# Altium footprint library RoketAnaSistemPCBKütüphane.PcbLib: 41 footprints (part 3 of 3)
Each footprint in its own frame and in the unit in brackets; x right, y up, seen from the top. Pads: shape width x height; smd on the part's side, far side on the other; paste and mask are expansions set on the pad; w line width, h text height; cw(c..) or ccw(c..) is an arc to the next point about the centre after c.
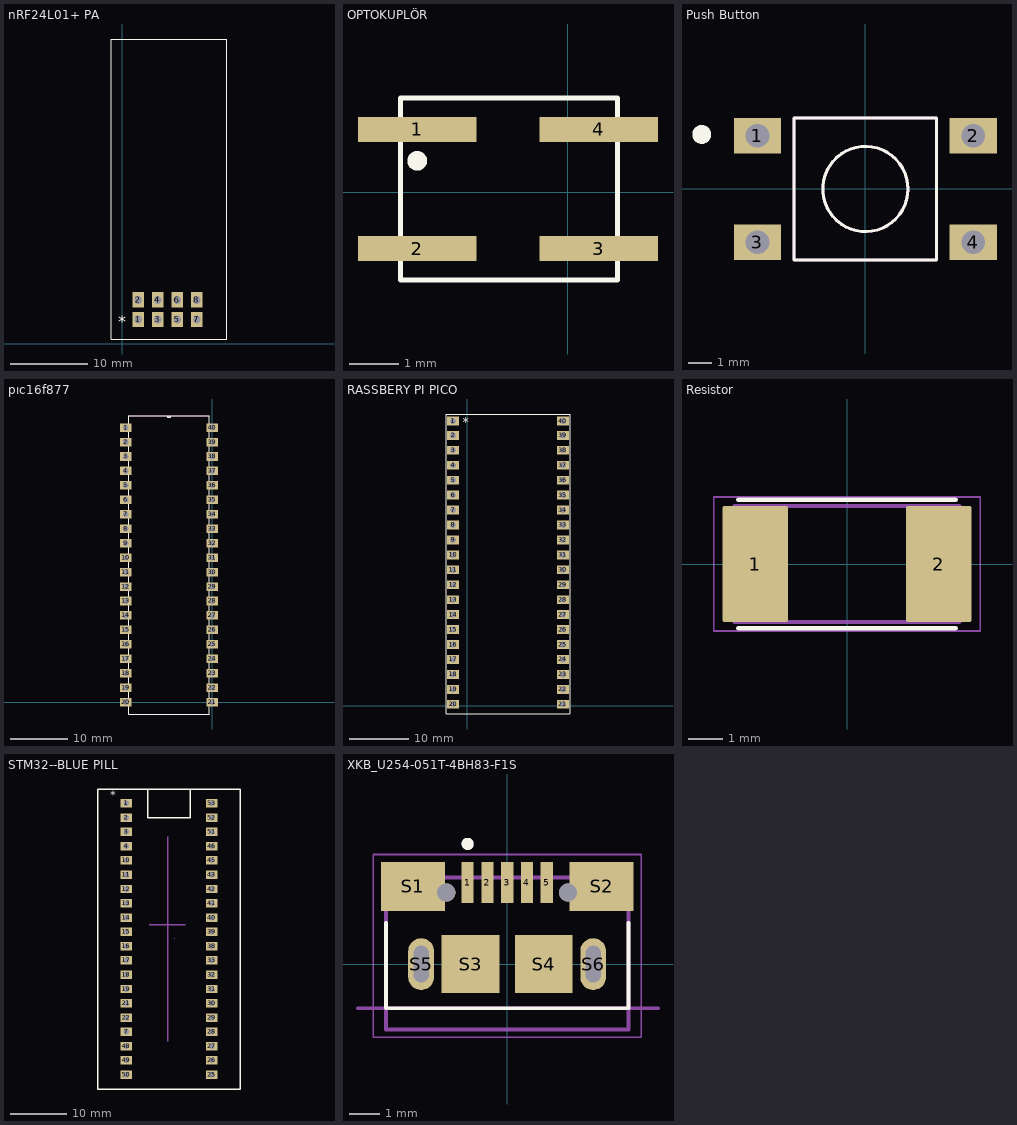
[diagram p2: the footprints below, top view; thin cyan lines are the x and y axes]

## nRF24L01+ PA [mm] "Wireless Module"
pads (8):
  rect 1.5x2 hole 1: 1(2.103,3.175) 2(2.103,5.715) 3(4.643,3.175) 4(4.643,5.715) 5(7.183,3.175) 6(7.183,5.715) 7(9.723,3.175) 8(9.723,5.715)
Top Overlay:
  lines w0.1: -1.397,0.635 13.603,0.635 13.603,39.635 -1.397,39.635 -1.397,0.635
  text "*" at -0.508,2.159 h1.52

## OPTOKUPLÖR [mm]
pads (4):
  rect 2.4x0.5 smd: 1(-3.048,1.27) 2(-3.048,-1.143) 3(0.635,-1.143) 4(0.635,1.27)
Top Overlay:
  circle w0.2: c-3.048,0.635 r0.1
  lines w0.1: -3.384,-1.778 1.016,-1.778 1.016,1.905 -3.384,1.905 -3.384,-1.778

## PCBComponent_1 [mm]

## Push Button [mm]
pads (4):
  rect 2x1.5 hole 1: 1(-4.55,2.25) 2(4.55,2.25) 3(-4.55,-2.25) 4(4.55,-2.25)
Top Overlay:
  circle w0.4: c-6.9,2.3 r0.2
  circle w0.127: c0,0 r1.796
  lines w0.127: -3,-3 3,-3 3,3 -3,3 -3,-3
Mechanical 13:
  circle w0.127: c0,0 r1.796
  lines w0.127: -3,-3 3,-3 3,3 -3,3 -3,-3

## pıc16f877 [mm] "pıc16f877"
pads (40):
  rect 2x1.5 hole 1: 1(-15.24,48.26) 2(-15.24,45.72) 3(-15.24,43.18) 4(-15.24,40.64) 5(-15.24,38.1) 6(-15.24,35.56) 7(-15.24,33.02) 8(-15.24,30.48) 9(-15.24,27.94) 10(-15.24,25.4) 11(-15.24,22.86) 12(-15.24,20.32) 13(-15.24,17.78) 14(-15.24,15.24) 15(-15.24,12.7) 16(-15.24,10.16) 17(-15.24,7.62) 18(-15.24,5.08) 19(-15.24,2.54) 20(-15.24,0) 21(0,0) 22(0,2.54) 23(0,5.08) 24(0,7.62) 25(0,10.16) 26(0,12.7) 27(0,15.24) 28(0,17.78) 29(0,20.32) 30(0,22.86) 31(0,25.4) 32(0,27.94) 33(0,30.48) 34(0,33.02) 35(0,35.56) 36(0,38.1) 37(0,40.64) 38(0,43.18) 39(0,45.72) 40(0,48.26)
Top Overlay:
  lines w0: -7.925,50.343 ccw(c-7.62,50.343) -7.315,50.343
  lines w0.152: -14.732,-0.965 -14.732,-2.083 ; -14.732,49.352 -14.732,50.343 ; -0.508,-0.965 -0.508,-2.083 ; -0.508,49.225 -0.508,50.343 ; -14.732,-2.083 -0.508,-2.083 ; -14.732,-2.083 -14.732,50.343 ; -14.732,50.343 -7.925,50.343 -7.315,50.343 -0.508,50.343 ; -0.508,-2.083 -0.508,50.343
Mechanical 13:
  drawing of 165 lines, arcs and shapes, not listed

## RASSBERY PI PICO [mm] "PROCESSOR MODULE"
pads (41):
  rect 2x1.5 hole 1 mask+0.1: 1(-2.413,48.387) 1(-2.413,48.387) 2(-2.413,45.974) 3(-2.413,43.434) 4(-2.413,40.894) 5(-2.413,38.354) 6(-2.413,35.814) 7(-2.413,33.274) 8(-2.413,30.734) 9(-2.413,28.194) 10(-2.413,25.654) 11(-2.413,23.114) 12(-2.413,20.574) 13(-2.413,18.034) 14(-2.413,15.494) 15(-2.413,12.954) 16(-2.413,10.414) 17(-2.413,7.874) 18(-2.413,5.334) 19(-2.413,2.794) 20(-2.413,0.254) 21(16.256,0.254) 22(16.256,2.794) 23(16.256,5.334) 24(16.256,7.874) 25(16.256,10.414) 26(16.256,12.954) 27(16.256,15.494) 28(16.256,18.034) 29(16.256,20.574) 30(16.256,23.114) 31(16.256,25.654) 32(16.256,28.194) 33(16.256,30.734) 34(16.256,33.274) 35(16.256,35.814) 36(16.256,38.354) 37(16.256,40.894) 38(16.256,43.434) 39(16.256,45.974) 40(16.256,48.387)
Top Overlay:
  lines w0.1: 17.398,49.603 -3.556,49.603 -3.556,-1.397 17.406,-1.397 17.406,49.596
  text "*" at -0.762,47.498 h1.52

## Resistor [mm] "2512 Resistor"
pads (2):
  rrect7% 1.9x3.37 smd: 1(-2.66,0) 2(2.66,0)
Top Overlay:
  lines w0.127: -3.15,-1.865 3.15,-1.865 ; -3.15,1.865 3.15,1.865
Mechanical 13:
  lines w0.127: -3.25,-1.68 -3.25,1.68 3.25,1.68 3.25,-1.68 -3.25,-1.68
Mechanical 15:
  lines w0.05: -3.86,-1.94 -3.86,1.94 3.86,1.94 3.86,-1.94 -3.86,-1.94

## STM32--BLUE PILL [mm]
pads (40):
  rect 2x1.5 hole 1: 1(59.309,-234.569) 2(59.309,-237.109) 3(59.309,-239.649) 4(59.309,-242.189) 7(59.309,-275.209) 10(59.309,-244.729) 11(59.309,-247.269) 12(59.309,-249.809) 13(59.309,-252.349) 14(59.309,-254.889) 15(59.309,-257.429) 16(59.309,-259.969) 17(59.309,-262.509) 18(59.309,-265.049) 19(59.309,-267.589) 21(59.309,-270.129) 22(59.309,-272.669) 25(74.549,-282.829) 26(74.549,-280.289) 27(74.549,-277.749) 28(74.549,-275.209) 29(74.549,-272.669) 30(74.549,-270.129) 31(74.549,-267.589) 32(74.549,-265.049) 33(74.549,-262.509) 38(74.549,-259.969) 39(74.549,-257.429) 40(74.549,-254.889) 41(74.549,-252.349) 42(74.549,-249.809) 43(74.549,-247.269) 45(74.549,-244.729) 46(74.549,-242.189) 48(59.309,-277.749) 49(59.309,-280.289) 50(59.309,-282.829) 51(74.549,-239.649) 52(74.549,-237.109) 53(74.549,-234.569)
Top Overlay:
  lines w0.254: 63.119,-232.029 63.119,-237.109 70.739,-237.109 70.739,-232.029 69.469,-232.029 ; 54.229,-285.369 54.229,-232.029 79.629,-232.029 79.629,-285.369 54.229,-285.369
  text "*" at 56.515,-233.807 h1.52
Mechanical 15:
  lines w0.003: 67.856,-258.597 67.907,-258.547
  lines w0.25: 63.373,-256.159 69.85,-256.159 ; 66.675,-276.86 66.675,-266.192 ; 66.675,-266.7 66.675,-240.538

## XKB_U254-051T-4BH83-F1S [mm]
pads (13):
  rect 0.4x1.35 smd: 1(-1.3,2.675) 2(-0.65,2.675) 3(0,2.675) 4(0.65,2.675) 5(1.3,2.675)
  rect 2.1x1.6 smd: S1(-3.1,2.55) S2(3.1,2.55)
  rect 1.9x1.9 smd: S3(-1.2,0) S4(1.2,0)
  oval 0.85x1.7 hole 0.5 slot 1.2 at 90 deg: S5(-2.825,0) S6(2.825,0)
  round 0.6 hole 0.6 unplated: ""(-2,2.35) ""(2,2.35)
Top Overlay:
  circle w0.2: c-1.3,3.95 r0.1
  lines w0.127: -3.98,-1.45 -3.98,1.35 ; -3.9,-1.45 3.9,-1.45 ; 3.98,-1.45 3.98,1.35
Mechanical 13:
  circle w0.2: c-1.3,3.95 r0.1
  lines w0.127: -4.9,-1.45 4.953,-1.45 ; -3.98,-2.15 -3.98,2.85 3.98,2.85 3.98,-2.15 -3.98,-2.15
Mechanical 15:
  lines w0.05: -4.4,-2.4 -4.4,3.6 4.4,3.6 4.4,-2.4 -4.4,-2.4